# Altium footprint library ece components.PcbLib: 102 footprints (part 3 of 7)
Each footprint in its own frame and in the unit in brackets; x right, y up, seen from the top. Pads: shape width x height; smd on the part's side, far side on the other; paste and mask are expansions set on the pad; w line width, h text height; cw(c..) or ccw(c..) is an arc to the next point about the centre after c.
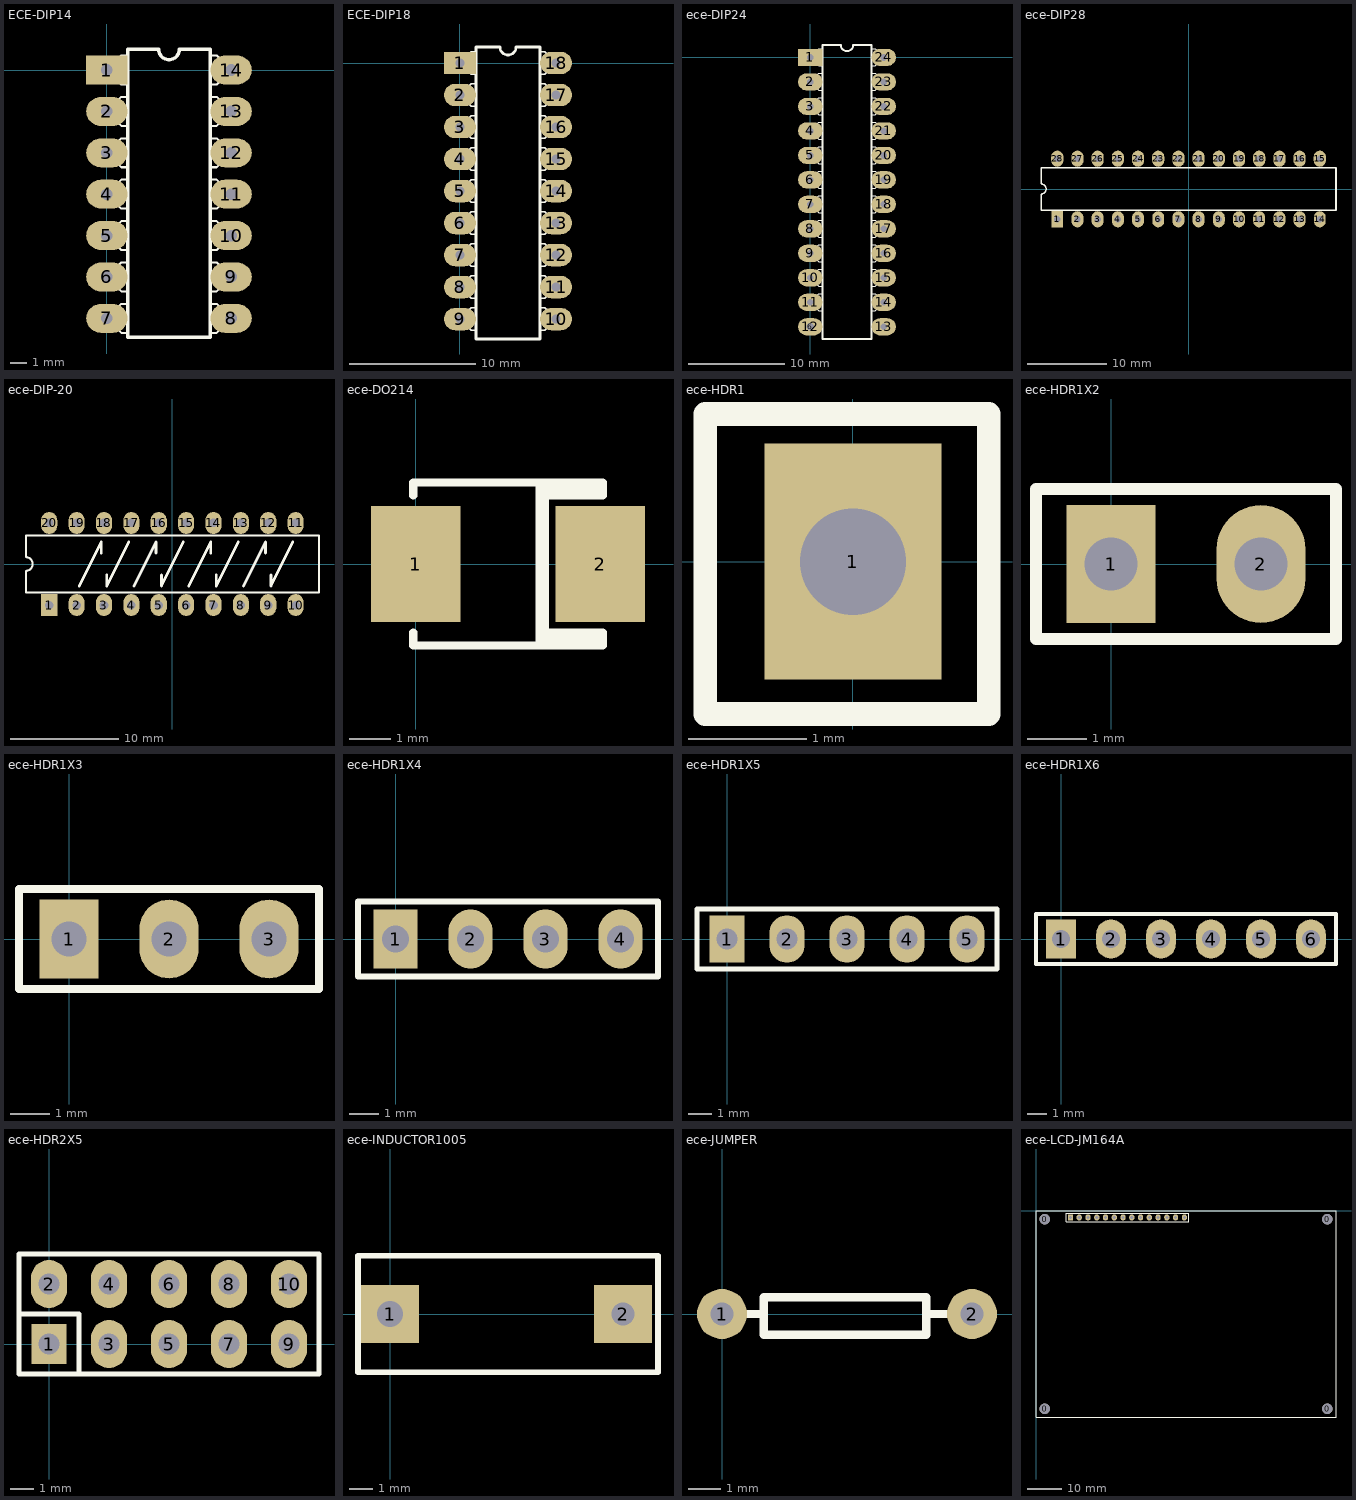
[diagram p2: the footprints below, top view; thin cyan lines are the x and y axes]

## ECE-DIP14 [mil] "DIP 14"
pads (14):
  rect 100x70 hole 28: 1(0,0)
  oval 100x70 hole 28: 2(0,-100) 3(0,-200) 4(0,-300) 5(0,-400) 6(0,-500) 7(0,-600) 8(300,-600) 9(300,-500) 10(300,-400) 11(300,-300) 12(300,-200) 13(300,-100) 14(300,0)
Top Overlay:
  lines w5: 50,-635 35,-635 15,-615 0,-615 0,-585 15,-585 35,-565 50,-565 ; 50,-535 35,-535 15,-515 0,-515 0,-485 15,-485 35,-465 50,-465 ; 50,-435 35,-435 15,-415 0,-415 0,-385 15,-385 35,-365 50,-365 ; 50,-335 35,-335 15,-315 0,-315 0,-285 15,-285 35,-265 50,-265 ; 50,-235 35,-235 15,-215 0,-215 0,-185 15,-185 35,-165 50,-165 ; 50,-135 35,-135 15,-115 0,-115 0,-85 15,-85 35,-65 50,-65 ; 50,-35 35,-35 15,-15 0,-15 0,15 15,15 35,35 50,35 ; 250,-635 265,-635 285,-615 300,-615 300,-585 285,-585 265,-565 250,-565 ; 250,-535 265,-535 285,-515 300,-515 300,-485 285,-485 265,-465 250,-465 ; 250,-435 265,-435 285,-415 300,-415 300,-385 285,-385 265,-365 250,-365 ; 250,-335 265,-335 285,-315 300,-315 300,-285 285,-285 265,-265 250,-265 ; 250,-235 265,-235 285,-215 300,-215 300,-185 285,-185 265,-165 250,-165 ; 250,-135 265,-135 285,-115 300,-115 300,-85 285,-85 265,-65 250,-65 ; 250,-35 265,-35 285,-15 300,-15 300,15 285,15 265,35 250,35
  lines w8: 50,-645.67 50,50 125,50 ccw(c150,50) 175,50 250,50 250,-645.67 50,-645.67

## ECE-DIP18 [mil]
pads (18):
  rect 100x70 hole 28: 1(0,0)
  oval 100x70 hole 28: 2(0,-100) 3(0,-200) 4(0,-300) 5(0,-400) 6(0,-500) 7(0,-600) 8(0,-700) 9(0,-800) 10(300,-800) 11(300,-700) 12(300,-600) 13(300,-500) 14(300,-400) 15(300,-300) 16(300,-200) 17(300,-100) 18(300,0)
Top Overlay:
  lines w5: 50,-835 35,-835 15,-815 0,-815 0,-785 15,-785 35,-765 50,-765 ; 50,-735 35,-735 15,-715 0,-715 0,-685 15,-685 35,-665 50,-665 ; 50,-635 35,-635 15,-615 0,-615 0,-585 15,-585 35,-565 50,-565 ; 50,-535 35,-535 15,-515 0,-515 0,-485 15,-485 35,-465 50,-465 ; 50,-435 35,-435 15,-415 0,-415 0,-385 15,-385 35,-365 50,-365 ; 50,-335 35,-335 15,-315 0,-315 0,-285 15,-285 35,-265 50,-265 ; 50,-235 35,-235 15,-215 0,-215 0,-185 15,-185 35,-165 50,-165 ; 50,-135 35,-135 15,-115 0,-115 0,-85 15,-85 35,-65 50,-65 ; 50,-35 35,-35 15,-15 0,-15 0,15 15,15 35,35 50,35 ; 250,-835 265,-835 285,-815 300,-815 300,-785 285,-785 265,-765 250,-765 ; 250,-735 265,-735 285,-715 300,-715 300,-685 285,-685 265,-665 250,-665 ; 250,-635 265,-635 285,-615 300,-615 300,-585 285,-585 265,-565 250,-565 ; 250,-535 265,-535 285,-515 300,-515 300,-485 285,-485 265,-465 250,-465 ; 250,-435 265,-435 285,-415 300,-415 300,-385 285,-385 265,-365 250,-365 ; 250,-335 265,-335 285,-315 300,-315 300,-285 285,-285 265,-265 250,-265 ; 250,-235 265,-235 285,-215 300,-215 300,-185 285,-185 265,-165 250,-165 ; 250,-135 265,-135 285,-115 300,-115 300,-85 285,-85 265,-65 250,-65 ; 250,-35 265,-35 285,-15 300,-15 300,15 285,15 265,35 250,35
  lines w8: 50,-862.2 250,-862.2 250,50 175,50 cw(c150,50) 125,50 50,50 50,-862.2

## ece-DIP24 [mil]
pads (25):
  rect 100x70 hole 28: 1(0,0)
  oval 100x70 hole 28: 2(0,-100) 3(0,-200) 4(0,-300) 5(0,-400) 6(0,-500) 7(0,-600) 8(0,-700) 9(0,-800) 10(0,-900) 11(0,-1000) 12(0,-1100) 13(300,-1100) 14(300,-1000) 15(300,-900) 16(300,-800) 17(300,-700) 18(300,-600) 19(300,-500) 20(300,-400) 21(300,-300) 22(300,-200) 23(300,-100) 24(300,0)
  round 40 hole 30: 6(0,-1100)
Top Overlay:
  drawing of 160 lines, arcs and shapes, not listed

## ece-DIP28 [mm]
pads (28):
  rect 1.5x2.032 hole 0.8: 1(-16.51,-3.81)
  oval 1.5x2.032 hole 0.8: 2(-13.97,-3.81) 3(-11.43,-3.81) 4(-8.89,-3.81) 5(-6.35,-3.81) 6(-3.81,-3.81) 7(-1.27,-3.81) 8(1.27,-3.81) 9(3.81,-3.81) 10(6.35,-3.81) 11(8.89,-3.81) 12(11.43,-3.81) 13(13.97,-3.81) 14(16.51,-3.81)
  oval 1.524x2.032 hole 0.8: 15(16.51,3.81) 16(13.97,3.81) 17(11.43,3.81) 18(8.89,3.81) 19(6.35,3.81) 20(3.81,3.81) 21(1.27,3.81) 22(-1.27,3.81) 23(-3.81,3.81) 24(-6.35,3.81) 25(-8.89,3.81) 26(-11.43,3.81) 27(-13.97,3.81) 28(-16.51,3.81)
Top Overlay:
  lines w0.2: -18.55,-2.65 -18.55,-0.635 ccw(c-18.55,0) -18.55,0.635 -18.55,2.65 18.55,2.65 18.55,-2.65 -18.55,-2.65

## ece-DIP-20 [mm]
pads (20):
  rect 1.5x2.032 hole 0.8: 1(-11.43,-3.81)
  oval 1.5x2.032 hole 0.8: 2(-8.89,-3.81) 3(-6.35,-3.81) 4(-3.81,-3.81) 5(-1.27,-3.81) 6(1.27,-3.81) 7(3.81,-3.81) 8(6.35,-3.81) 9(8.89,-3.81) 10(11.43,-3.81) 11(11.43,3.81) 12(8.89,3.81) 13(6.35,3.81) 14(3.81,3.81) 15(1.27,3.81) 16(-1.27,3.81) 17(-3.81,3.81) 18(-6.35,3.81) 19(-8.89,3.81) 20(-11.43,3.81)
Top Overlay:
  lines w0.2: -13.6,-2.65 -13.6,-0.635 ccw(c-13.6,0) -13.6,0.635 -13.6,2.65 13.6,2.65 13.6,-2.65 -13.6,-2.65
  lines w0.254: -8.636,-2.032 -6.604,2.032 -6.604,1.016 ; -6.096,-1.016 -6.096,-2.032 -4.064,2.032 ; -3.556,-2.032 -1.524,2.032 -1.524,1.016 ; -1.016,-1.016 -1.016,-2.032 1.016,2.032 ; 1.524,-2.032 3.556,2.032 3.556,1.016 ; 4.064,-1.016 4.064,-2.032 6.096,2.032 ; 6.604,-2.032 8.636,2.032 8.636,1.016 ; 9.144,-1.016 9.144,-2.032 11.176,2.032

## ece-DO214 [mil] "SM dioide"
pads (2):
  rect 85x110 smd: 1(0,0) 2(175,0)
Top Overlay:
  rectangle: 113.5,-65 126.5,65
  rectangle: 113.5,-77.5 177.5,-65
  rectangle: 113.5,65 177.5,77.5
  lines w7.87: -2.5,-65 -2.5,-77.5 177.5,-77.5 177.5,-65 117.5,-65 ; -2.5,65 -2.5,77.5 177.5,77.5 177.5,65 117.5,65

## ece-HDR1 [mm]
pads (1):
  rect 1.5x2 hole 0.9: 1(0,0)
Top Overlay:
  lines w0.2: -1.25,-1.29 -1.25,1.25 1.15,1.25 1.15,-1.29 -1.25,-1.29

## ece-HDR1X2 [mm] "Header 2 way"
pads (2):
  rect 1.5x2 hole 0.9: 1(0,0)
  oval 1.5x2 hole 0.9: 2(2.54,0)
Top Overlay:
  lines w0.2: -1.27,-1.27 3.81,-1.27 3.81,1.27 -1.27,1.27 -1.27,-1.27

## ece-HDR1X3 [mm] "Header 3 way"
pads (3):
  rect 1.5x2 hole 0.9: 1(0,0)
  oval 1.5x2 hole 0.9: 2(2.54,0) 3(5.08,0)
Top Overlay:
  lines w0.2: -1.27,-1.27 6.35,-1.27 6.35,1.27 -1.27,1.27 -1.27,-1.27

## ece-HDR1X4 [mm] "Header 4 way"
pads (4):
  rect 1.5x2 hole 0.9: 1(0,0)
  oval 1.5x2 hole 0.9: 2(2.54,0) 3(5.08,0) 4(7.62,0)
Top Overlay:
  lines w0.2: -1.27,-1.27 -1.27,1.27 8.89,1.27 8.89,-1.27 -1.27,-1.27

## ece-HDR1X5 [mm] "Header 5 way"
pads (5):
  rect 1.5x2 hole 0.9: 1(0,0)
  oval 1.5x2 hole 0.9: 2(2.54,0) 3(5.08,0) 4(7.62,0) 5(10.16,0)
Top Overlay:
  lines w0.2: -1.27,-1.27 11.43,-1.27 11.43,1.27 -1.27,1.27 -1.27,-1.27

## ece-HDR1X6 [mm] "Header 6 way"
pads (6):
  rect 1.5x2 hole 0.9: 1(0,0)
  oval 1.5x2 hole 0.9: 2(2.54,0) 3(5.08,0) 4(7.62,0) 5(10.16,0) 6(12.7,0)
Top Overlay:
  lines w0.2: -1.27,-1.27 -1.27,1.27 13.97,1.27 13.97,-1.27 -1.27,-1.27

## ece-HDR2X5 [mil]
pads (10):
  rect 59.06x66.93 hole 35.43: 1(0,0)
  oval 60x80 hole 35.43: 2(0,100) 3(100,0) 4(100,100) 5(200,0) 6(200,100) 7(300,0) 8(300,100) 9(400,0) 10(400,100)
Top Overlay:
  lines w7.87: -50,-50 450,-50 450,150 -50,150 -50,-50
  lines w8: -50,50 50,50 50,-50

## ece-INDUCTOR1005 [mil]
pads (2):
  rect 100x100 hole 45: 1(0,0)
  rect 100x100 hole 40: 2(400,0)
Top Overlay:
  lines w10: -55,-100 -55,100 460,100 460,-100 -55,-100

## ece-JUMPER [mil] "JUMPER"
pads (2):
  round 60 hole 27.56: 1(0,0) 2(300,0)
Top Overlay:
  lines w10: 30,0 50,0 50,20 ; 270,0 245,0 245,20 ; 50,20 245,20 ; 50,20 50,-25 245,-25 245,20

## ece-LCD-JM164A [mm]
pads (18):
  round 3 hole 3: 0(2.5,-57.5) 0(2.5,-2.5) 0(84.5,-57.5) 0(84.5,-2.5)
  rect 1.5x1.8 hole 0.9: 1(10,-2)
  oval 1.5x1.8 hole 0.9: 2(12.54,-2) 3(15.08,-2) 4(17.62,-2) 5(20.16,-2) 6(22.7,-2) 7(25.24,-2) 8(27.78,-2) 9(30.32,-2) 10(32.86,-2) 11(35.4,-2) 12(37.94,-2) 13(40.48,-2) 14(43.02,-2)
Top Overlay:
  lines w0.2: 0,-30.5 0,0 ; 75.6,0 0,0 ; 0,0 0,-60 87,-60 87,0 0,0 ; 8.73,-3.27 44.29,-3.27 44.29,-0.73 10.635,-0.73 8.73,-0.73 8.73,-3.27